# Altium footprint library led.PCBLIB: 116 footprints (part 5 of 8)
Each footprint in its own frame and in the unit in brackets; x right, y up, seen from the top. Pads: shape width x height; smd on the part's side, far side on the other; paste and mask are expansions set on the pad; w line width, h text height; cw(c..) or ccw(c..) is an arc to the next point about the centre after c.
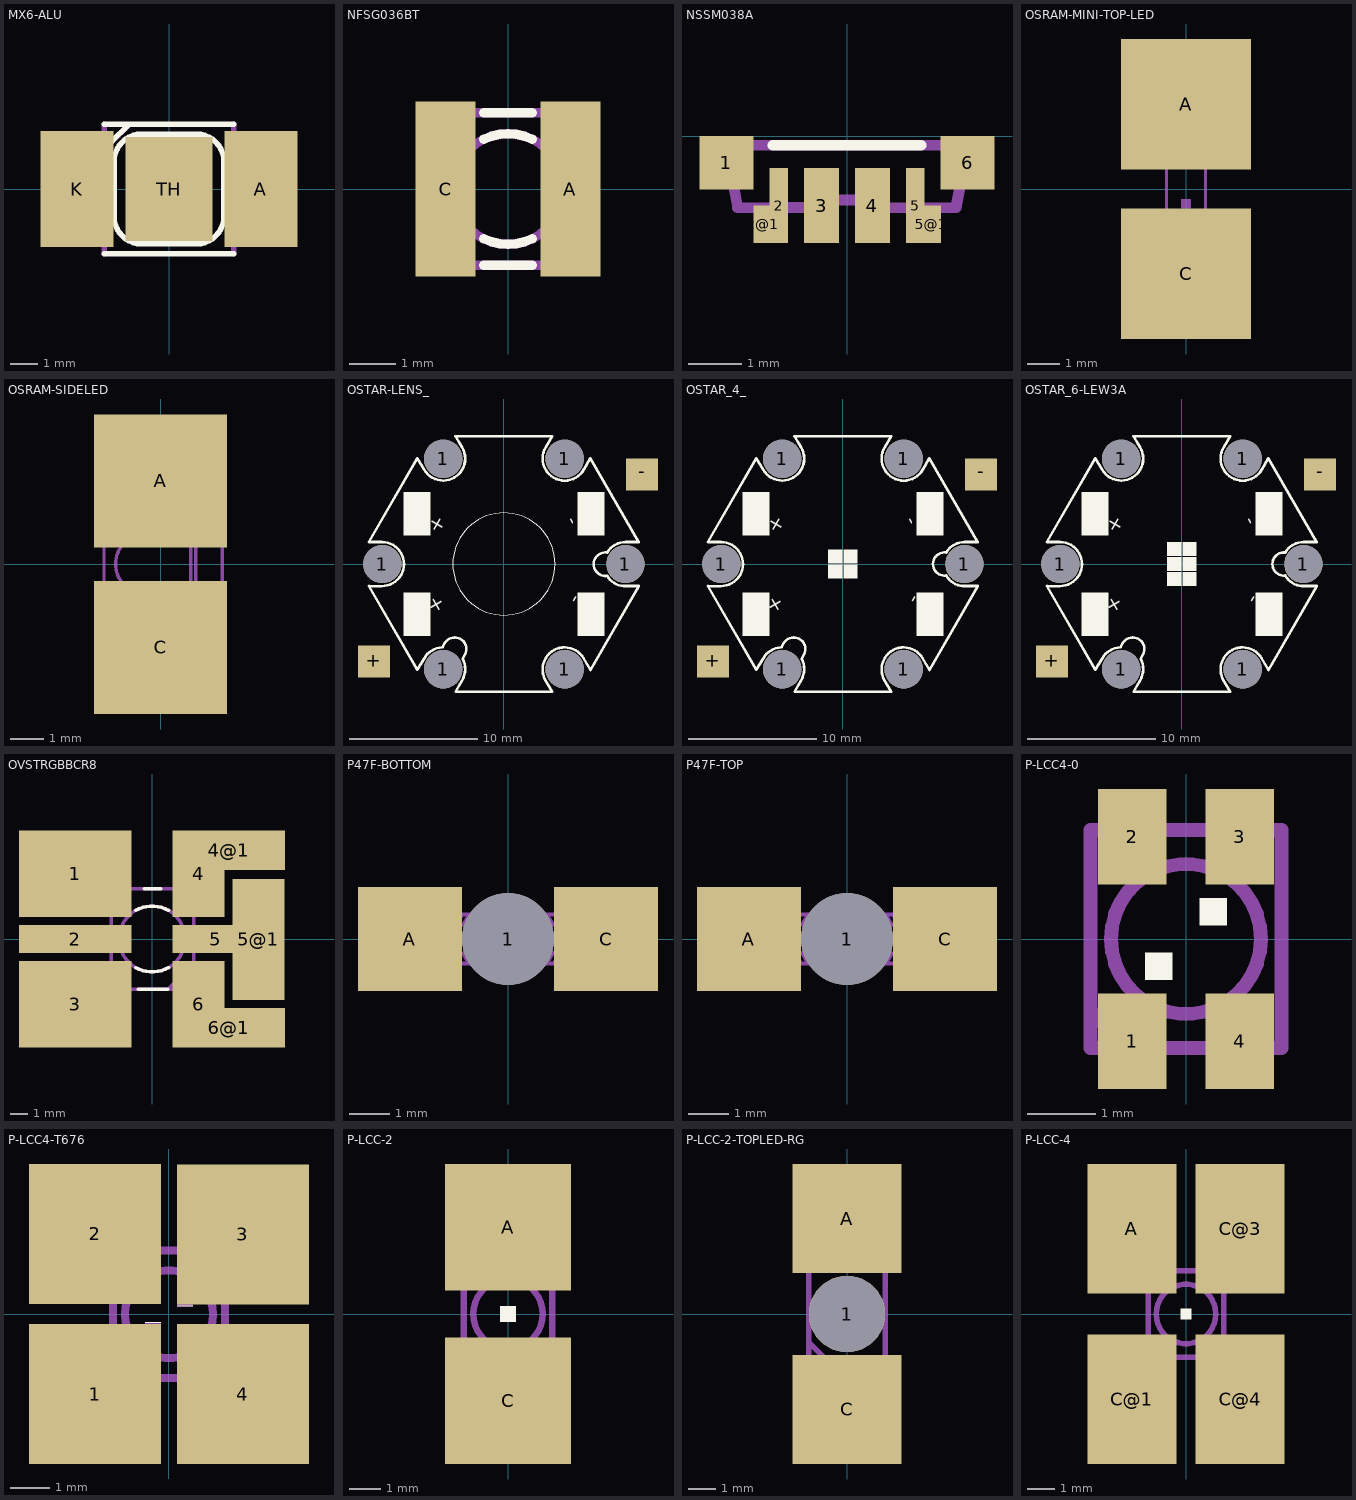
[diagram p4: the footprints below, top view; thin cyan lines are the x and y axes]

## MX6-ALU [mil]
pads (3):
  rect 106.3x169.29 smd: A(133.86,0) K(-133.86,0)
  rect 127.17x151.18 smd: TH(0,0)
Top Overlay:
  lines w8: -94.49,-94.49 94.49,-94.49 ; -94.49,94.49 94.49,94.49 ; -83.66,68.9 -59.06,93.5 ; -80,-40 -80,40 cw(c-40,40) -40,80 40,80 cw(c40,40) 80,40 80,-40 cw(c40,-40) 40,-80 -40,-80 cw(c-40,-40) -80,-40
Top Paste:
  rectangle: -19.69,-68.9 19.69,68.9
  rectangle: -142.72,-78.74 -88.58,78.74
  region: 142.72,78.74 88.58,78.74 88.58,-78.74 142.72,-78.74
Top Solder:
  rectangle: -157.48,-83.66 -82.68,83.66
  region: 157.48,83.66 82.68,83.66 82.68,-83.66 157.48,-83.66
  rectangle: -25.59,-76.77 25.59,76.77
Mechanical 16:
  rectangle: -127.95,-82.68 -98.43,82.68
  region: 127.95,82.68 98.43,82.68 98.43,-82.68 127.95,-82.68
  lines w8: -94.49,-94.49 -94.49,94.49 ; -93.5,59.06 -59.06,93.5 ; 94.49,-94.49 94.49,94.49

## NFSG036BT [mm]
pads (2):
  rect 1.3x3.8 smd: A(1.35,0) C(-1.35,0)
Top Overlay:
  lines w0.203: -0.525,-1.65 0.525,-1.65 ; -0.525,-1.075 ccw(c0,-0.035) 0.525,-1.075 ; -0.525,1.075 cw(c0,0.035) 0.525,1.075 ; -0.525,1.65 0.525,1.65
Mechanical 16:
  circle w0.203: c0,0 r1.2
  lines w0.203: -1.25,-0.875 -0.875,-1.25 ; -1.25,0.875 -0.875,1.25 ; -1.65,-1.325 -1.65,1.325 ccw(c-1.65,1.65) -1.325,1.65 1.325,1.65 ccw(c1.65,1.65) 1.65,1.325 1.65,-1.325 ccw(c1.65,-1.65) 1.325,-1.65 -1.325,-1.65 ccw(c-1.65,-1.65) -1.65,-1.325

## NSSM038A [mm]
pads (8):
  rect 1x1 smd: 1(-2.25,-0.5) 6(2.25,-0.5)
  rect 0.35x1.4 smd: 2(-1.275,-1.3) 5(1.275,-1.3)
  rect 0.35x0.7 smd: 2@1(-1.575,-1.65) 5@1(1.575,-1.65)
  rect 0.65x1.4 smd: 3(-0.475,-1.3) 4(0.475,-1.3)
Top Overlay:
  lines w0.203: -1.38,-0.17 1.38,-0.17
Top Paste:
  rectangle: -2.675,-0.95 -1.8,-0.05
  rectangle: -1.425,-1.95 -1.125,-0.65
  rectangle: -0.75,-1.95 -0.2,-0.65
  rectangle: 1.8,-0.95 2.675,-0.05
  rectangle: 1.125,-1.95 1.425,-0.65
  rectangle: 0.2,-1.95 0.75,-0.65
Top Solder:
  rectangle: -2.8,-1.05 -1.7,0.05
  rectangle: -1.475,-2.025 -1.075,-0.575
  rectangle: -1.775,-2.025 -1.45,-1.275
  rectangle: -0.825,-2.025 -0.125,-0.575
  rectangle: 0.125,-2.025 0.825,-0.575
  rectangle: 1.075,-2.025 1.475,-0.575
  rectangle: 1.45,-2.025 1.775,-1.275
  rectangle: 1.7,-1.05 2.8,0.05
Mechanical 16:
  lines w0.203: -2.13,-0.17 2.13,-0.17 2.117,-0.264 2.247,-0.264 2.247,-0.506 2.117,-0.506 2.117,-0.895 2.037,-1.338 1.32,-1.338 1.32,-1.473 1.258,-1.473 1.258,-1.338 0.627,-1.338 0.622,-1.473 0.287,-1.473 0.287,-1.19 -0.295,-1.19 -0.295,-1.477 -0.636,-1.477 -0.636,-1.334 -1.262,-1.334 -1.262,-1.473 -1.329,-1.473 -1.329,-1.338 -2.041,-1.338 -2.122,-0.891 -2.126,-0.891 -2.126,-0.493 -2.256,-0.493 -2.256,-0.264 -2.128,-0.264

## OSRAM-MINI-TOP-LED [mm]
pads (2):
  rect 4x4 smd: A(0,2.6) C(0,-2.6)
Top Overlay:
  text "A" at -0.635,1.905 h1.97
  text "C" at -0.635,-3.175 h1.97
Top Paste:
  rectangle: -0.45,0.65 0.45,1.35
  rectangle: -0.45,-1.35 0.45,-0.65
Top Solder:
  rectangle: -0.5,0.6 0.5,1.4
  rectangle: -0.5,-1.4 0.5,-0.6
Mechanical 16:
  rectangle: -0.15,-0.6 0.15,-0.3
  lines w0.102: -0.45,0.95 -0.45,1.1 0.45,1.1 0.45,0.95 ; 0.45,-0.95 0.45,-1.1 -0.45,-1.1 -0.45,-0.9 -0.4,-0.9 ; -0.4,-0.9 0.6,-0.9 0.6,0.9 -0.6,0.9 -0.6,-0.7 -0.4,-0.9

## OSRAM-SIDELED [mm]
pads (2):
  rect 4x4 smd: A(0,2.5) C(0,-2.5)
Top Overlay:
  text "C" at 0.635,-3.175 h1.97
  text "A" at 0.635,2.54 h1.97
Top Paste:
  rectangle: -1.9,-2.1 1.9,-0.6
  rectangle: -1.9,0.6 1.9,2.1
Top Solder:
  rectangle: -2.1,-2.2 2.1,-0.4
  rectangle: -2.1,0.4 2.1,2.2
Mechanical 16:
  rectangle: -1.85,-2.05 -0.7,-1
  lines w0.102: 0.85,-1.2 -0.55,-0.9 cw(c-0.45,0) -0.55,0.9 0.85,1.2 ; 0.9,-2.05 0.9,2.05 ; 0.9,-2.05 -1.85,-2.05 -1.85,-0.75 -1.7,-0.75 -1.7,0.75 -1.85,0.75 -1.85,2.05 0.9,2.05 ; 0.9,-2.05 1.05,-2.05 ; 0.9,2.05 1.05,2.05 ; 1.05,-2.05 1.85,-1.85 1.85,1.85 1.05,2.05 ; 1.05,-2.05 1.05,2.05

## OSTAR-LENS_ [mm]
pads (8):
  round 3 hole 3: 1(-9.5,0) 1(-4.75,-8.225) 1(-4.75,8.225) 1(4.75,-8.225) 1(4.75,8.225) 1(9.5,0)
  rect 2.5x2.5 smd: +(-10.16,-7.62) -(10.795,6.985)
Top Overlay:
  circle w0: c0,0 r4
  rectangle: -7.848,2.225 -5.748,5.625
  rectangle: 5.748,2.225 7.848,5.625
  rectangle: 5.748,-5.625 7.848,-2.225
  rectangle: -7.848,-5.625 -5.748,-2.225
  lines w0.203: -4.82,-6.52 ccw(c-4.759,-8.218) -6.24,-7.385 -6.77,-8.28 -10.55,-1.72 -9.55,-1.725 ccw(c-9.541,0) -9.54,1.725 -10.55,1.725 -6.77,8.27 -6.23,7.365 ccw(c-4.751,8.247) -3.26,9.11 -3.785,10 3.785,10 3.265,9.115 ccw(c4.751,8.242) 6.245,7.385 6.76,8.275 10.55,1.72 9.54,1.72 ; -4.805,-6.505 -4.615,-6.17 cw(c-3.845,-6.646) -3.04,-7.06 -3.23,-7.4 ; -3.235,-7.4 cw(c-4.781,-8.222) -3.26,-9.09 -3.78,-9.99 3.775,-9.995 3.31,-9.19 cw(c4.742,-8.236) 6.225,-7.365 6.765,-8.285 10.55,-1.72 9.565,-1.72 ; 9.535,1.72 9.54,1.72 ; 9.55,-1.72 9.565,-1.72 ; 9.54,1.72 ccw(c9.508,0.059) 8.075,0.9 ccw(c7.942,-0.013) 8.075,-0.925 ccw(c9.469,-0.106) 9.565,-1.72
  text "+" at -4.8,2.1 h1.97
  text "+" at -4.2,-3.3 h1.97
  text "-" at 4.5,3.2 h1.97
  text "-" at 5,-2.1 h1.97

## OSTAR_4_ [mm]
pads (8):
  round 3 hole 3: 1(-9.5,0) 1(-4.75,-8.225) 1(-4.75,8.225) 1(4.75,-8.225) 1(4.75,8.225) 1(9.5,0)
  rect 2.5x2.5 smd: +(-10.16,-7.62) -(10.795,6.985)
Top Overlay:
  rectangle: -7.848,2.225 -5.748,5.625
  rectangle: 5.748,2.225 7.848,5.625
  rectangle: 5.748,-5.625 7.848,-2.225
  rectangle: -7.848,-5.625 -5.748,-2.225
  rectangle: -1.15,0.05 -0.05,1.15
  rectangle: 0.05,0.05 1.15,1.15
  rectangle: -1.15,-1.15 -0.05,-0.05
  rectangle: 0.05,-1.15 1.15,-0.05
  lines w0.203: -4.82,-6.52 ccw(c-4.759,-8.218) -6.24,-7.385 -6.77,-8.28 -10.55,-1.72 -9.55,-1.725 ccw(c-9.541,0) -9.54,1.725 -10.55,1.725 -6.77,8.27 -6.23,7.365 ccw(c-4.751,8.248) -3.26,9.11 -3.785,10 3.785,10 3.265,9.115 ccw(c4.75,8.242) 6.245,7.385 6.76,8.275 10.55,1.72 9.54,1.72 ; -4.805,-6.505 -4.615,-6.17 cw(c-3.845,-6.646) -3.04,-7.06 -3.23,-7.4 ; -3.235,-7.4 cw(c-4.781,-8.222) -3.26,-9.09 -3.78,-9.99 3.775,-9.995 3.31,-9.19 cw(c4.741,-8.236) 6.225,-7.365 6.765,-8.285 10.55,-1.72 9.565,-1.72 ; 9.535,1.72 9.54,1.72 ; 9.55,-1.72 9.565,-1.72 ; 9.54,1.72 ccw(c9.508,0.059) 8.075,0.9 ccw(c7.944,0) 8.075,-0.9 ccw(c9.49,-0.093) 9.565,-1.72
  text "+" at -4.8,2.1 h1.97
  text "+" at -4.2,-3.3 h1.97
  text "-" at 4.5,3.2 h1.97
  text "-" at 5,-2.1 h1.97

## OSTAR_6-LEW3A [mm]
pads (8):
  round 3 hole 3: 1(-9.5,0) 1(-4.75,-8.225) 1(-4.75,8.225) 1(4.75,-8.225) 1(4.75,8.225) 1(9.5,0)
  rect 2.5x2.5 smd: +(-10.16,-7.62) -(10.795,6.985)
Top Overlay:
  rectangle: -7.848,2.225 -5.748,5.625
  rectangle: 5.748,2.225 7.848,5.625
  rectangle: 5.748,-5.625 7.848,-2.225
  rectangle: -7.848,-5.625 -5.748,-2.225
  rectangle: -1.15,0.627 -0.05,1.727
  rectangle: 0.05,0.627 1.15,1.727
  rectangle: -1.15,-1.727 -0.05,-0.627
  rectangle: 0.05,-1.727 1.15,-0.627
  rectangle: -1.15,-0.552 -0.05,0.548
  rectangle: 0.05,-0.552 1.15,0.548
  lines w0.203: -4.82,-6.52 ccw(c-4.759,-8.218) -6.24,-7.385 -6.77,-8.28 -10.55,-1.72 -9.55,-1.725 ccw(c-9.541,0) -9.54,1.725 -10.55,1.725 -6.77,8.27 -6.23,7.365 ccw(c-4.751,8.247) -3.26,9.11 -3.785,10 3.785,10 3.265,9.115 ccw(c4.751,8.242) 6.245,7.385 6.76,8.275 10.55,1.72 9.54,1.72 ; -4.805,-6.505 -4.615,-6.17 cw(c-3.845,-6.646) -3.04,-7.06 -3.23,-7.4 ; -3.235,-7.4 cw(c-4.781,-8.222) -3.26,-9.09 -3.78,-9.99 3.775,-9.995 3.31,-9.19 cw(c4.742,-8.236) 6.225,-7.365 6.765,-8.285 10.55,-1.72 9.565,-1.72 ; 9.535,1.72 9.54,1.72 ; 9.55,-1.72 9.565,-1.72 ; 9.54,1.72 ccw(c9.508,0.059) 8.075,0.9 ccw(c7.977,0) 8.075,-0.9 ccw(c9.49,-0.093) 9.565,-1.72
  text "+" at -4.8,2.1 h1.97
  text "+" at -4.2,-3.3 h1.97
  text "-" at 4.5,3.2 h1.97
  text "-" at 5,-2.1 h1.97

## OVSTRGBBCR8 [mm]
pads (9):
  rect 6.5x5 smd: 1(-4.442,3.786) 3(-4.442,-3.786)
  rect 6.5x1.6 smd: 2(-4.442,0)
  rect 3x5 smd: 4(2.692,3.786) 6(2.692,-3.786)
  rect 6.5x2.3 smd: 4@1(4.442,5.136) 6@1(4.442,-5.136)
  rect 5x1.6 smd: 5(3.692,0)
  rect 3x7 smd: 5@1(6.15,-0.025)
Top Overlay:
  lines w0.203: -0.95,-1.65 ccw(c0,0) 0.95,-1.65 ; -0.95,1.65 cw(c0,0) 0.95,1.65 ; -0.813,-2.896 0.914,-2.896 ; -0.457,2.896 0.508,2.896
Top Paste:
  rectangle: -4.125,1.35 -1.275,3.225
  rectangle: -4.125,-0.725 -1.275,0.725
  rectangle: -4.12,-3.23 -1.27,-1.355
  region: 4.125,-1.35 1.275,-1.35 1.275,-3.225 4.125,-3.225
  region: 4.125,0.725 1.275,0.725 1.275,-0.725 4.125,-0.725
  region: 4.12,3.23 1.27,3.23 1.27,1.355 4.12,1.355
Top Solder:
  rectangle: -4.2,1.275 -1.2,3.3
  rectangle: -4.2,-0.8 -1.2,0.8
  rectangle: -4.2,-3.3 -1.2,-1.275
  region: 4.2,-1.275 1.2,-1.275 1.2,-3.3 4.2,-3.3
  region: 4.2,0.8 1.2,0.8 1.2,-0.8 4.2,-0.8
  region: 4.2,3.3 1.2,3.3 1.2,1.275 4.2,1.275
Mechanical 16:
  circle w0.203: c0,0 r1.905
  rectangle: -2.845,1.422 -2.464,2.794
  rectangle: -2.845,-0.686 -2.464,0.686
  rectangle: -2.845,-2.794 -2.464,-1.422
  region: 2.845,-1.422 2.464,-1.422 2.464,-2.794 2.845,-2.794
  region: 2.845,0.686 2.464,0.686 2.464,-0.686 2.845,-0.686
  region: 2.845,2.794 2.464,2.794 2.464,1.422 2.845,1.422
  lines w0.203: 0.914,-2.896 2.413,-2.896 2.413,-1.397 ; 0.914,-2.896 -2.362,-2.896 -2.362,2.896 2.413,2.896 2.413,-1.397 ; 0.914,-2.896 2.413,-1.397

## P47F-BOTTOM [mil]
pads (3):
  round 90.55 hole 90.55: 1(0,0)
  rect 102.36x102.36 smd: A(-96.46,0) C(96.46,0)
Bottom Layer:
  rectangle: -118.37,-7.29 -118,-6.92
  region: 98.55,-0.19 98.18,-0.19 98.18,-0.56 98.55,-0.56
Bottom Overlay:
  circle w3.94: c0,0 r37.5
Top Paste:
  rectangle: -70.87,-28.54 -46.26,1.97
  region: 70.87,28.54 46.26,28.54 46.26,-1.97 70.87,-1.97
Top Solder:
  rectangle: -71.85,-35.43 -45.28,7.87
  region: 71.85,35.43 45.28,35.43 45.28,-7.87 71.85,-7.87
Mechanical 16:
  lines w3.94: -38.62,-23.62 -43.87,-14.25 -38.24,-11.62 ; -36.75,10.5 -43.87,13.88 -38.24,24 ; -31.5,-24 -68.99,-24 -68.99,-6.75 -58.87,-6.75 -56.24,-9 ccw(c-52.11,-4.17) -49.87,-10.12 ccw(c-51.24,-6.5) -47.62,-7.87 ccw(c-54.87,-5.12) -48.74,-0.37 cw(c-41.02,5.64) -50.62,3.75 cw(c-34.34,6.93) -50.62,10.12 cw(c-7.2,1.63) -45.37,24 -38.24,24 ; -29.62,24 -38.24,24 ; 29.62,-24 38.24,-24 ; 31.5,24 68.99,24 68.99,6.75 58.87,6.75 56.24,9 ccw(c52.11,4.17) 49.87,10.12 ccw(c51.24,6.5) 47.62,7.87 ccw(c54.87,5.12) 48.74,0.37 cw(c41.02,-5.64) 50.62,-3.75 cw(c34.34,-6.93) 50.62,-10.12 cw(c7.2,-1.63) 45.37,-24 38.24,-24 ; 36.75,-10.5 43.87,-13.88 38.24,-24 ; 38.24,11.62 43.87,14.25 38.62,23.62
Mechanical 30:
  rectangle: -3.94,-3.94 3.94,3.94
  lines w3.94: -12,-1.87 ccw(c-3.37,-1.87) -3.37,-10.5 9,-10.5 21.37,-11.62 ccw(c22.04,-4.28) 27.37,-9.37 ccw(c16.54,1) 31.5,0 ccw(c16.54,-1) 27.37,9.37 ccw(c22.04,4.28) 21.37,11.62 9,10.5 -3.37,10.5 ccw(c-3.37,1.87) -12,1.87 -12,-1.87

## P47F-TOP [mil]
pads (3):
  round 90.55 hole 90.55: 1(0,0)
  rect 102.36x102.36 smd: A(-96.46,0) C(96.46,0)
Top Layer:
  rectangle: -118.37,6.92 -118,7.3
  region: 98.55,0.56 98.18,0.56 98.18,0.19 98.55,0.19
Top Overlay:
  circle w3.94: c0,0 r37.5
  rectangle: -3.94,-3.94 3.94,3.94
  lines w3.94: -12,-1.87 -12,1.87 cw(c-3.37,1.87) -3.37,10.5 9,10.5 21.37,11.62 cw(c22.04,4.28) 27.37,9.37 cw(c16.54,-1) 31.5,0 cw(c16.54,1) 27.37,-9.37 cw(c22.04,-4.28) 21.37,-11.62 9,-10.5 -3.37,-10.5 cw(c-3.37,-1.87) -12,-1.87
Top Paste:
  rectangle: -70.87,-1.97 -46.26,28.54
  region: 70.87,1.97 46.26,1.97 46.26,-28.54 70.87,-28.54
Top Solder:
  rectangle: -71.85,-7.87 -45.28,35.43
  region: 71.85,7.87 45.28,7.87 45.28,-35.43 71.85,-35.43
Mechanical 16:
  lines w3.94: -38.62,23.62 -43.87,14.25 -38.24,11.62 ; -36.75,-10.5 -43.87,-13.88 -38.24,-24 ; -31.5,24 -68.99,24 -68.99,6.75 -58.87,6.75 -56.24,9 cw(c-52.11,4.18) -49.87,10.12 cw(c-51.24,6.5) -47.62,7.87 cw(c-54.87,5.12) -48.74,0.37 ccw(c-41.02,-5.64) -50.62,-3.75 ccw(c-34.34,-6.93) -50.62,-10.12 ccw(c-7.2,-1.63) -45.37,-24 -38.24,-24 ; -29.62,-24 -38.24,-24 ; 29.62,24 38.24,24 ; 31.5,-24 68.99,-24 68.99,-6.75 58.87,-6.75 56.24,-9 cw(c52.11,-4.18) 49.87,-10.12 cw(c51.24,-6.5) 47.62,-7.87 cw(c54.87,-5.12) 48.74,-0.37 ccw(c41.02,5.64) 50.62,3.75 ccw(c34.34,6.93) 50.62,10.12 ccw(c7.2,1.63) 45.37,24 38.24,24 ; 36.75,10.5 43.87,13.88 38.24,24 ; 38.24,-11.62 43.87,-14.25 38.62,-23.62

## P-LCC4-0 [mil]
pads (4):
  rect 39.37x55.12 smd: 1(-31,-59.06) 2(-31,59.06) 3(31,59.06) 4(31,-59.06)
Top Overlay:
  rectangle: -23.62,-23.62 -7.87,-7.87
  rectangle: 7.87,7.87 23.62,23.62
Top Paste:
  rectangle: -43.31,-74.8 -15.75,-35.43
  rectangle: 15.75,-74.8 43.31,-35.43
  rectangle: 15.75,35.43 43.31,74.8
  rectangle: -43.31,35.43 -15.75,74.8
Top Solder:
  rectangle: -45.28,33.46 -13.78,76.77
  rectangle: 13.78,33.46 45.28,76.77
  rectangle: 13.78,-76.77 45.28,-33.46
  rectangle: -45.28,-76.77 -13.78,-33.46
Mechanical 16:
  circle w8: c0,0 r43.31
  lines w4: -39.37,-62.99 -39.37,-70.87 -19.69,-70.87 -19.69,-64.96 ; -39.37,62.99 -39.37,70.87 -19.69,70.87 -19.69,64.96 ; 19.69,-64.96 19.69,-70.87 39.37,-70.87 39.37,-62.99 ; 19.69,64.96 19.69,70.87 43.31,70.87 43.31,62.99
  lines w8: -55.12,-41.34 -55.12,-62.99 -39.37,-62.99 -33.46,-62.99 ; -55.12,-41.34 -33.46,-62.99 ; -55.12,-41.34 -55.12,62.99 -39.37,62.99 43.31,62.99 55.12,62.99 55.12,-62.99 39.37,-62.99 -33.46,-62.99

## P-LCC4-T676 [mm]
pads (4):
  rect 3.3x3.5 smd: 1(-1.85,-2) 2(-1.85,2.012) 3(1.85,2) 4(1.85,-2)
Top Overlay:
  rectangle: -0.6,-0.225 -0.2,-0.2
  rectangle: 0.2,0.2 0.6,0.225
Top Paste:
  rectangle: -1.1,-1.8 -0.4,-0.8
  rectangle: 0.4,-1.8 1.1,-0.8
  rectangle: 0.4,0.8 1.1,1.8
  rectangle: -1.1,0.8 -0.4,1.8
Top Solder:
  rectangle: -1.15,0.75 -0.35,1.85
  rectangle: 0.35,0.75 1.15,1.85
  rectangle: 0.35,-1.85 1.15,-0.75
  rectangle: -1.15,-1.85 -0.35,-0.75
Mechanical 16:
  circle w0.203: c0,0 r1.1
  rectangle: -0.6,-0.6 -0.2,-0.2
  rectangle: 0.2,0.2 0.6,0.6
  lines w0.102: -1,-1.6 -1,-1.8 -0.5,-1.8 -0.5,-1.65 ; -1,1.6 -1,1.8 -0.5,1.8 -0.5,1.65 ; 0.5,-1.65 0.5,-1.8 1,-1.8 1,-1.6 ; 0.5,1.65 0.5,1.8 1.1,1.8 1.1,1.6
  lines w0.203: -1.4,-1.05 -1.4,-1.6 -1,-1.6 -0.85,-1.6 ; -1.4,-1.05 -0.85,-1.6 ; -1.4,-1.05 -1.4,1.6 -1,1.6 1.1,1.6 1.4,1.6 1.4,-1.6 1,-1.6 -0.85,-1.6

## P-LCC-2 [mm]
pads (2):
  rect 4x4 smd: A(0,2.75) C(0,-2.75)
Top Overlay:
  rectangle: -0.25,-0.25 0.25,0.25
  text "A" at -0.635,2.54 h1.97
  text "C" at -0.635,-3.81 h1.97
Top Paste:
  rectangle: -1.3,-2.25 1.3,-0.75
  rectangle: -1.3,0.75 1.3,2.25
Top Solder:
  rectangle: -1.4,0.65 1.4,2.35
  rectangle: -1.4,-2.35 1.4,-0.65
Mechanical 16:
  circle w0.203: c0,0 r1.1
  lines w0.102: -1.1,-1.6 -1.1,-1.8 1.1,-1.8 1.1,-1.6 ; -1.1,1.6 -1.1,1.8 1.1,1.8 1.1,1.6
  lines w0.203: -1.4,-1.05 -1.4,-1.6 -1.1,-1.6 -0.85,-1.6 ; -1.4,-1.05 -0.85,-1.6 ; -1.4,-1.05 -1.4,1.6 -1.1,1.6 1.1,1.6 1.4,1.6 1.4,-1.6 1.1,-1.6 -0.85,-1.6

## P-LCC-2-TOPLED-RG [mm]
pads (3):
  round 2.8 hole 2.8: 1(0,0)
  rect 4x4 smd: A(0,3.5) C(0,-3.5)
Top Overlay:
  circle w0.203: c0,0 r1.1
  rectangle: -0.25,-0.25 0.25,0.25
  text "A" at -0.635,3.29 h1.97
  text "C" at -0.635,-4.56 h1.97
Top Paste:
  rectangle: -1.3,-3 1.3,-1.5
  rectangle: -1.3,1.5 1.3,3
Top Solder:
  rectangle: -1.5,1.5 1.5,3.2
  rectangle: -1.5,-3.2 1.5,-1.5
Mechanical 16:
  rectangle: -1.15,2.4 1.15,2.7
  rectangle: -1.15,-2.7 1.15,-2.4
  lines w0.102: -1.1,-2.45 -1.1,-1.6 ; -1.1,1.6 -1.1,2.45 ; 1.1,-2.45 1.1,-1.6 ; 1.1,1.6 1.1,2.45
  lines w0.203: -1.4,-1.05 -1.4,-1.6 -1.1,-1.6 -0.85,-1.6 ; -1.4,-1.05 -0.85,-1.6 ; -1.4,-1.05 -1.4,1.6 -1.1,1.6 1.1,1.6 1.4,1.6 1.4,-1.6 1.1,-1.6 -0.85,-1.6

## P-LCC-4 [mm]
pads (4):
  rect 3.3x4.8 smd: A(-2,3.15) C@1(-2,-3.15) C@3(2,3.15) C@4(2,-3.15)
Top Overlay:
  rectangle: -0.2,-0.2 0.2,0.2
  text "C" at -1.905,-3.81 h1.97
  text "A" at -1.905,2.54 h1.97
  text "C" at 1.27,2.54 h1.97
  text "C" at 1.27,-3.81 h1.97
Top Paste:
  rectangle: -1.1,-1.8 -0.4,-0.8
  rectangle: 0.4,-1.8 1.1,-0.8
  rectangle: 0.4,0.8 1.1,1.8
  rectangle: -1.1,0.8 -0.4,1.8
Top Solder:
  rectangle: -1.15,0.75 -0.35,1.85
  rectangle: 0.35,0.75 1.15,1.85
  rectangle: 0.35,-1.85 1.15,-0.75
  rectangle: -1.15,-1.85 -0.35,-0.75
Mechanical 16:
  circle w0.203: c0,0 r1.1
  lines w0.102: -1,-1.6 -1,-1.8 -0.5,-1.8 -0.5,-1.65 ; -1,1.6 -1,1.8 -0.5,1.8 -0.5,1.65 ; 0.5,-1.65 0.5,-1.8 1,-1.8 1,-1.6 ; 0.5,1.65 0.5,1.8 1.1,1.8 1.1,1.6
  lines w0.203: -1.4,-1.05 -1.4,-1.6 -1,-1.6 -0.85,-1.6 ; -1.4,-1.05 -0.85,-1.6 ; -1.4,-1.05 -1.4,1.6 -1,1.6 1.1,1.6 1.4,1.6 1.4,-1.6 1,-1.6 -0.85,-1.6